# Altium schematic symbol library EEEFK1V180SR.SchLib: 1 symbol
Pins are listed as number, name and electrical type; pins without a type are passive.

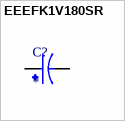
[diagram p0: symbol EEEFK1V180SR]

## EEEFK1V180SR
designator C?
CAP ALUM 18UF 20% 35V SMD; MP: EEEFK1V180SR; MF: Panasonic; Purchase-URL: https://pricing.snapeda.com/search/part/EEEFK1V180SR/?ref=eda; SnapEDA_Link: https://www.snapeda.com/parts/EEEFK1V180SR/Panasonic/view-part/?ref=snap; Value: *; Check_prices: https://www.snapeda.com/parts/EEEFK1V180SR/Panasonic/view-part/?ref=eda; Digi-Key_Part_Number: PCE5153TR-ND; Package: RADIAL-2 Panasonic
footprint CAP_EEEFK1V180SR
pins: 1, 2